# Altium footprint library XCVR_SAM-M10Q-00B.PcbLib: 1 footprints
Each footprint in its own frame and in the unit in brackets; x right, y up, seen from the top. Pads: shape width x height; smd on the part's side, far side on the other; paste and mask are expansions set on the pad; w line width, h text height; cw(c..) or ccw(c..) is an arc to the next point about the centre after c.
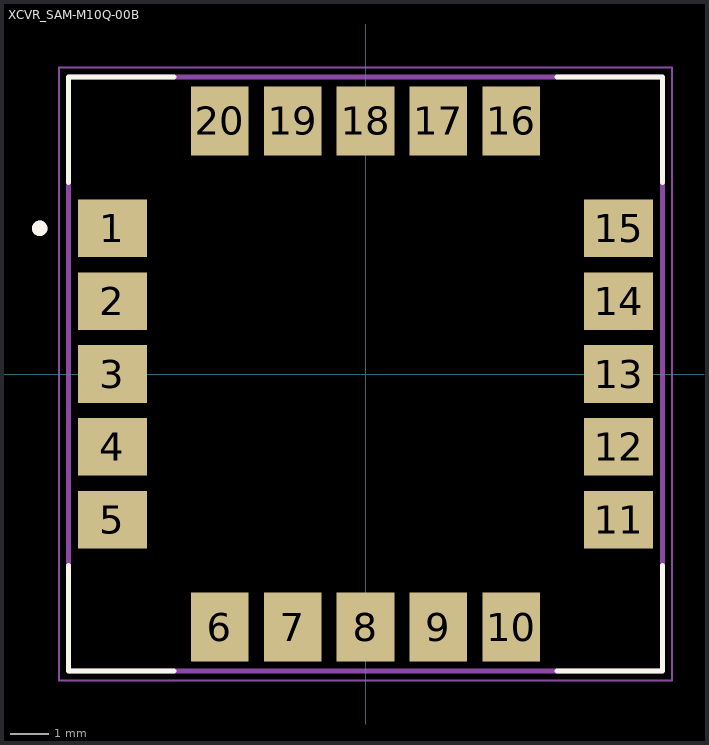
[diagram p0: the footprint, top view; thin cyan lines are the x and y axes]

## XCVR_SAM-M10Q-00B [mm]
height 6.8
pads (20):
  rect 1.8x1.5 smd paste-2 mask+0.05: 1(-6.6,3.8) 2(-6.6,1.9) 3(-6.6,0) 4(-6.6,-1.9) 5(-6.6,-3.8) 11(6.6,-3.8) 12(6.6,-1.9) 13(6.6,0) 14(6.6,1.9) 15(6.6,3.8)
  rect 1.5x1.8 smd paste-2 mask+0.05: 6(-3.8,-6.6) 7(-1.9,-6.6) 8(0,-6.6) 9(1.9,-6.6) 10(3.8,-6.6) 16(3.8,6.6) 17(1.9,6.6) 18(0,6.6) 19(-1.9,6.6) 20(-3.8,6.6)
Top Overlay:
  circle w0.2: c-8.5,3.8 r0.1
  lines w0.127: -7.75,-5 -7.75,-7.75 -5,-7.75 ; -7.75,5 -7.75,7.75 -5,7.75 ; 5,-7.75 7.75,-7.75 7.75,-5 ; 5,7.75 7.75,7.75 7.75,5
Top Paste:
  drawing of 80 lines, arcs and shapes, not listed
Assembly Top:
  circle w0.2: c-8.5,3.8 r0.1
  lines w0.127: -7.75,-7.75 7.75,-7.75 7.75,7.75 -7.75,7.75 -7.75,-7.75
  text "Note: Stencil is based on 120um stencil thickness" at -12,-12 h0.81
Courtyard Top:
  lines w0.05: -8,-8 8,-8 8,8 -8,8 -8,-8
3D body "step_temp.STEP": height 6.8, standoff 0, extent -7.75,-8 7.75,8